# Altium schematic symbol library CAP.SchLib: 2 symbols
Pins are listed as number, name and electrical type; pins without a type are passive.

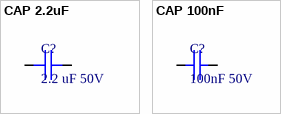
[diagram p0: symbols CAP 2.2uF to CAP 100nF]

## CAP 2.2uF
designator C?, comment 2.2 uF 50V
2.2uF 10V 0603
footprint Capacitor 0603
pins: 1, 2

## CAP 100nF
designator C?, comment 100nF 50V
100nF 50V 0603
footprint Capacitor 0603
pins: 1, 2